# Altium footprint library TE 1456505-3.PcbLib: 1 footprints
Each footprint in its own frame and in the unit in brackets; x right, y up, seen from the top. Pads: shape width x height; smd on the part's side, far side on the other; paste and mask are expansions set on the pad; w line width, h text height; cw(c..) or ccw(c..) is an arc to the next point about the centre after c.
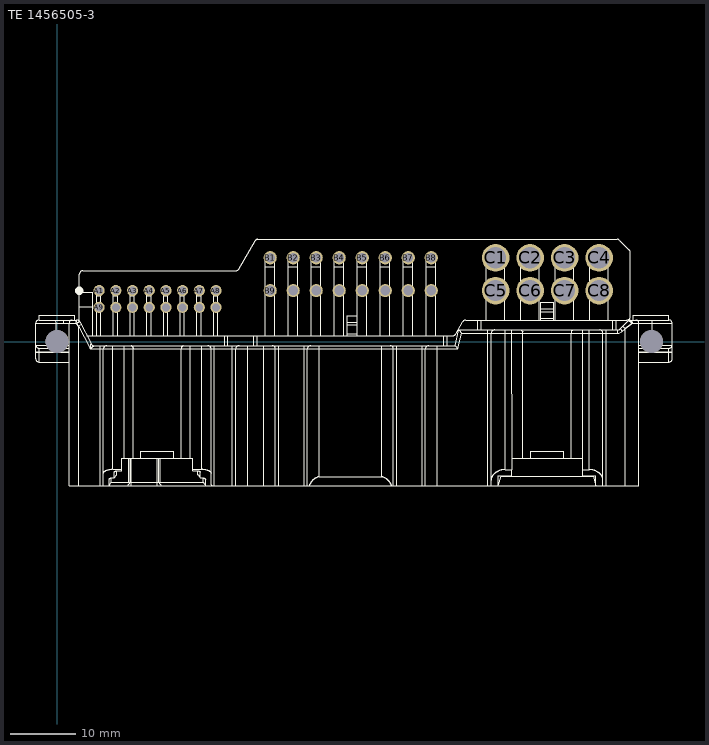
[diagram p0: the footprint, top view; thin cyan lines are the x and y axes]

## TE 1456505-3 [mm]
pads (42):
  round 1.7 hole 1.2: A1(6.39,7.74) A2(8.93,7.74) A3(11.47,7.74) A4(14.01,7.74) A5(16.55,7.74) A6(19.09,7.74) A7(21.63,7.74) A8(24.17,7.74) A9(6.39,5.2) A10(8.93,5.2) A11(11.47,5.2) A12(14.01,5.2) A13(16.55,5.2) A14(19.09,5.2) A15(21.63,5.2) A16(24.17,5.2)
  round 2 hole 1.5: B1(32.42,12.74) B2(35.92,12.74) B3(39.42,12.74) B4(42.92,12.74) B5(46.42,12.74) B6(49.92,12.74) B7(53.42,12.74) B8(56.92,12.74) B9(32.42,7.74) B10(35.92,7.74) B11(39.42,7.74) B12(42.92,7.74) B13(46.42,7.74) B14(49.92,7.74) B15(53.42,7.74) B16(56.92,7.74)
  round 4.2 hole 3.2: C1(66.72,12.74) C2(71.97,12.74) C3(77.22,12.74) C4(82.47,12.74) C5(66.72,7.74) C6(71.97,7.74) C7(77.22,7.74) C8(82.47,7.74)
  round 3.5 hole 3.5: ""(0,0) ""(90.42,0)
Top Overlay:
  drawing of 8783 lines, arcs and shapes, not listed
3D body "c-1456505-01-a4-3d.stp": height 28.05, standoff -4.05, extent -3.221,-21.975 93.599,15.575